# EAGLE library part XC3S1600EFG484 (library xilinx_spartan3_virtex4_and_5)
Xilinx FPGA
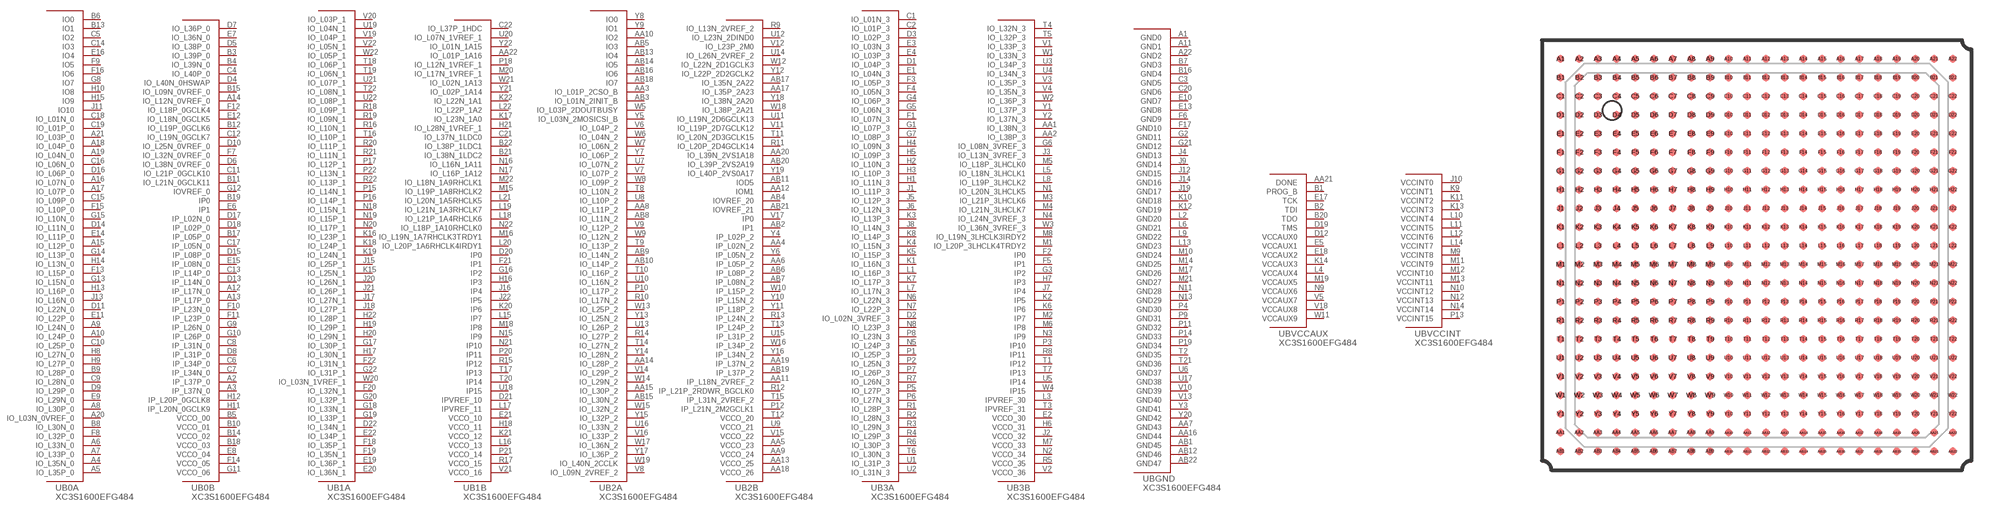
[diagram p60: symbol with the pads of FG484; footprint FG484]

Designator prefix U; gates B0A=XC3S1600EFG484_0A B0B=XC3S1600EFG484_0B B1A=XC3S1600EFG484_1A B1B=XC3S1600EFG484_1B B2A=XC3S1600EFG484_2A B2B=XC3S1600EFG484_2B B3A=XC3S1600EFG484_3A B3B=XC3S1600EFG484_3B BGND=XC3S1600EFG484_GND BVCCAUX=XC3S1600EFG484_VCCAUX BVCCINT=XC3S1600EFG484_VCCINT

## XC3S1600EFG484  [FG484]
A1  BGND:GND0  pas
A2  B0B:IP_L37P_0
A3  B0B:IP_L37N_0
A4  B0A:IO_L35N_0
A5  B0A:IO_L35P_0
A6  B0A:IO_L33N_0
A7  B0A:IO_L33P_0
A8  B0A:IO_L30P_0
A9  B0A:IO_L24N_0
A10  B0A:IO_L24P_0
A11  BGND:GND1  pas
A12  B0B:IP_L17N_0
A13  B0B:IP_L17P_0
A14  B0B:IO_L12N_0VREF_0
A15  B0A:IO_L12P_0
A16  B0A:IO_L07N_0
A17  B0A:IO_L07P_0
A18  B0A:IO_L04P_0
A19  B0A:IO_L04N_0
A20  B0A:IO_L03N_0VREF_0
A21  B0A:IO_L03P_0
A22  BGND:GND2  pas
AA1  B3B:IO_L38N_3
AA2  B3B:IO_L38P_3
AA3  B2A:IO_L01P_2CSO_B
AA4  B2B:IP_L02N_2
AA5  B2B:VCCO_23  pas
AA6  B2B:IP_L05P_2
AA7  BGND:GND43  pas
AA8  B2A:IO_L11P_2
AA9  B2B:VCCO_24  pas
AA10  B2A:IO2
AA11  B2B:IP_L18N_2VREF_2
AA12  B2B:IOM1
AA13  B2B:VCCO_25  pas
AA14  B2A:IO_L28P_2
AA15  B2A:IO_L30P_2
AA16  BGND:GND44  pas
AA17  B2B:IO_L35P_2A23
AA18  B2B:VCCO_26  pas
AA19  B2B:IP_L37N_2
AA20  B2B:IO_L39N_2VS1A18
AA21  BVCCAUX:DONE
AA22  B1B:IO_L01P_1A16
AB1  BGND:GND45  pas
AB2  B2B:IP1
AB3  B2A:IO_L01N_2INIT_B
AB4  B2B:IOVREF_20
AB5  B2A:IO3
AB6  B2B:IP_L08P_2
AB7  B2B:IP_L08N_2
AB8  B2A:IO_L11N_2
AB9  B2A:IO_L14N_2
AB10  B2A:IO_L14P_2
AB11  B2B:IOD5
AB12  BGND:GND46  pas
AB13  B2A:IO4
AB14  B2A:IO5
AB15  B2A:IO_L30N_2
AB16  B2A:IO6
AB17  B2B:IO_L35N_2A22
AB18  B2A:IO7
AB19  B2B:IP_L37P_2
AB20  B2B:IO_L39P_2VS2A19
AB21  B2B:IOVREF_21
AB22  BGND:GND47  pas
B1  BVCCAUX:PROG_B
B2  BVCCAUX:TDI
B3  B0B:IO_L39P_0
B4  B0B:IO_L39N_0
B5  B0B:VCCO_00  pas
B6  B0A:IO0
B7  BGND:GND3  pas
B8  B0A:IO_L30N_0
B9  B0A:IO_L28P_0
B10  B0B:VCCO_01  pas
B11  B0B:IO_L21N_0GCLK11
B12  B0B:IO_L19P_0GCLK6
B13  B0A:IO1
B14  B0B:VCCO_02  pas
B15  B0B:IO_L09N_0VREF_0
B16  BGND:GND4  pas
B17  B0B:IP_L05P_0
B18  B0B:VCCO_03  pas
B19  B0B:IP0
B20  BVCCAUX:TDO
B21  B1B:IO_L38N_1LDC2
B22  B1B:IO_L38P_1LDC1
C1  B3A:IO_L01N_3
C2  B3A:IO_L01P_3
C3  BGND:GND5  pas
C4  B0B:IO_L40P_0
C5  B0A:IO2
C6  B0B:IP_L34P_0
C7  B0B:IP_L34N_0
C8  B0B:IP_L31N_0
C9  B0A:IO_L28N_0
C10  B0A:IO_L25P_0
C11  B0B:IO_L21P_0GCLK10
C12  B0B:IO_L19N_0GCLK7
C13  B0B:IP_L14P_0
C14  B0A:IO3
C15  B0A:IO_L09P_0
C16  B0A:IO_L06N_0
C17  B0B:IP_L05N_0
C18  B0A:IO_L01N_0
C19  B0A:IO_L01P_0
C20  BGND:GND6  pas
C21  B1B:IO_L37N_1LDC0
C22  B1B:IO_L37P_1HDC
D1  B3A:IO_L04P_3
D2  B3A:IO_L02N_3VREF_3
D3  B3A:IO_L02P_3
D4  B0B:IO_L40N_0HSWAP
D5  B0B:IO_L38P_0
D6  B0B:IO_L38N_0VREF_0
D7  B0B:IO_L36P_0
D8  B0B:IP_L31P_0
D9  B0A:IO_L29P_0
D10  B0B:IO_L25N_0VREF_0
D11  B0A:IO_L22N_0
D12  BVCCAUX:VCCAUX0  pas
D13  B0B:IP_L14N_0
D14  B0A:IO_L11N_0
D15  B0B:IP_L08P_0
D16  B0A:IO_L06P_0
D17  B0B:IP_L02N_0
D18  B0B:IP_L02P_0
D19  BVCCAUX:TMS
D20  B1B:IP0
D21  B1B:IPVREF_10
D22  B1A:IO_L34N_1
E1  B3A:IO_L04N_3
E2  B3B:VCCO_30  pas
E3  B3A:IO_L03N_3
E4  B3A:IO_L03P_3
E5  BVCCAUX:VCCAUX1  pas
E6  B0B:IP1
E7  B0B:IO_L36N_0
E8  B0B:VCCO_04  pas
E9  B0A:IO_L29N_0
E10  BGND:GND7  pas
E11  B0A:IO_L22P_0
E12  B0B:IO_L18N_0GCLK5
E13  BGND:GND8  pas
E14  B0A:IO_L11P_0
E15  B0B:IP_L08N_0
E16  B0A:IO4
E17  BVCCAUX:TCK
E18  BVCCAUX:VCCAUX2  pas
E19  B1A:IO_L36P_1
E20  B1A:IO_L36N_1
E21  B1B:VCCO_10  pas
E22  B1A:IO_L34P_1
F1  B3A:IO_L07N_3
F2  B3B:IP0
F3  B3A:IO_L05P_3
F4  B3A:IO_L05N_3
F5  B3B:IP1
F6  BGND:GND9  pas
F7  B0B:IO_L32N_0VREF_0
F8  B0A:IO_L32P_0
F9  B0A:IO5
F10  B0B:IP_L23N_0
F11  B0B:IP_L23P_0
F12  B0B:IO_L18P_0GCLK4
F13  B0A:IO_L15P_0
F14  B0B:VCCO_05  pas
F15  B0A:IO_L10P_0
F16  B0A:IO6
F17  BGND:GND10  pas
F18  B1A:IO_L35P_1
F19  B1A:IO_L35N_1
F20  B1A:IO_L32N_1
F21  B1B:IP1
F22  B1A:IO_L31N_1
G1  B3A:IO_L07P_3
G2  BGND:GND11  pas
G3  B3B:IP2
G4  B3A:IO_L06P_3
G5  B3A:IO_L06N_3
G6  B3B:IO_L08N_3VREF_3
G7  B3A:IO_L08P_3
G8  B0A:IO7
G9  B0B:IP_L26N_0
G10  B0B:IP_L26P_0
G11  B0B:VCCO_06  pas
G12  B0B:IOVREF_0
G13  B0A:IO_L15N_0
G14  B0A:IO_L13P_0
G15  B0A:IO_L10N_0
G16  B1B:IP2
G17  B1A:IO_L30P_1
G18  B1A:IO_L33N_1
G19  B1A:IO_L33P_1
G20  B1A:IO_L32P_1
G21  BGND:GND12  pas
G22  B1A:IO_L31P_1
H1  B3A:IO_L11N_3
H2  B3A:IO_L10N_3
H3  B3A:IO_L10P_3
H4  B3A:IO_L09N_3
H5  B3A:IO_L09P_3
H6  B3B:VCCO_31  pas
H7  B3B:IP3
H8  B0A:IO_L27N_0
H9  B0A:IO_L27P_0
H10  B0A:IO8
H11  B0B:IP_L20N_0GCLK9
H12  B0B:IP_L20P_0GCLK8
H13  B0A:IO_L16P_0
H14  B0A:IO_L13N_0
H15  B0A:IO9
H16  B1B:IP3
H17  B1A:IO_L30N_1
H18  B1B:VCCO_11  pas
H19  B1A:IO_L29P_1
H20  B1A:IO_L29N_1
H21  B1B:IO_L28N_1VREF_1
H22  B1A:IO_L28P_1
J1  B3A:IO_L11P_3
J2  B3B:VCCO_32  pas
J3  B3B:IO_L13N_3VREF_3
J4  BGND:GND13  pas
J5  B3A:IO_L12P_3
J6  B3A:IO_L12N_3
J7  B3B:IP4
J8  B3A:IO_L14N_3
J9  BGND:GND14  pas
J10  BVCCINT:VCCINT0  pas
J11  B0A:IO10
J12  BGND:GND15  pas
J13  B0A:IO_L16N_0
J14  BGND:GND16  pas
J15  B1A:IO_L25P_1
J16  B1B:IP4
J17  B1A:IO_L27N_1
J18  B1A:IO_L27P_1
J19  BGND:GND17  pas
J20  B1A:IO_L26N_1
J21  B1A:IO_L26P_1
J22  B1B:IP5
K1  B3A:IO_L16N_3
K2  B3B:IP5
K3  B3A:IO_L13P_3
K4  B3A:IO_L15N_3
K5  B3A:IO_L15P_3
K6  B3B:IP6
K7  B3A:IO_L17P_3
K8  B3A:IO_L14P_3
K9  BVCCINT:VCCINT1  pas
K10  BGND:GND18  pas
K11  BVCCINT:VCCINT2  pas
K12  BGND:GND19  pas
K13  BVCCINT:VCCINT3  pas
K14  BVCCAUX:VCCAUX3  pas
K15  B1A:IO_L25N_1
K16  B1A:IO_L23P_1
K17  B1B:IO_L23N_1A0
K18  B1A:IO_L24P_1
K19  B1A:IO_L24N_1
K20  B1B:IP6
K21  B1B:VCCO_12  pas
K22  B1B:IO_L22N_1A1
L1  B3A:IO_L16P_3
L2  BGND:GND20  pas
L3  B3B:IPVREF_30
L4  BVCCAUX:VCCAUX4  pas
L5  B3B:IO_L18N_3LHCLK1
L6  BGND:GND21  pas
L7  B3A:IO_L17N_3
L8  B3B:IO_L19P_3LHCLK2
L9  BGND:GND22  pas
L10  BVCCINT:VCCINT4  pas
L11  BVCCINT:VCCINT5  pas
L12  BVCCINT:VCCINT6  pas
L13  BGND:GND23  pas
L14  BVCCINT:VCCINT7  pas
L15  B1B:IP7
L16  B1B:VCCO_13  pas
L17  B1B:IPVREF_11
L18  B1B:IO_L21P_1A4RHCLK6
L19  B1B:IO_L21N_1A3RHCLK7
L20  B1B:IO_L20P_1A6RHCLK4IRDY1
L21  B1B:IO_L20N_1A5RHCLK5
L22  B1B:IO_L22P_1A2
M1  B3B:IO_L20P_3LHCLK4TRDY2
M2  B3B:IP7
M3  B3B:IO_L21P_3LHCLK6
M4  B3B:IO_L21N_3LHCLK7
M5  B3B:IO_L18P_3LHCLK0
M6  B3B:IP8
M7  B3B:VCCO_33  pas
M8  B3B:IO_L19N_3LHCLK3IRDY2
M9  BVCCINT:VCCINT8  pas
M10  BGND:GND24  pas
M11  BVCCINT:VCCINT9  pas
M12  BVCCINT:VCCINT10  pas
M13  BVCCINT:VCCINT11  pas
M14  BGND:GND25  pas
M15  B1B:IO_L19P_1A8RHCLK2
M16  B1B:IO_L19N_1A7RHCLK3TRDY1
M17  BGND:GND26  pas
M18  B1B:IP8
M19  BVCCAUX:VCCAUX5  pas
M20  B1B:IO_L17N_1VREF_1
M21  BGND:GND27  pas
M22  B1B:IO_L18N_1A9RHCLK1
N1  B3B:IO_L20N_3LHCLK5
N2  B3B:VCCO_34  pas
N3  B3B:IP9
N4  B3B:IO_L24N_3VREF_3
N5  B3A:IO_L24P_3
N6  B3A:IO_L22N_3
N7  B3A:IO_L22P_3
N8  B3A:IO_L23P_3
N9  BVCCAUX:VCCAUX6  pas
N10  BVCCINT:VCCINT12  pas
N11  BGND:GND28  pas
N12  BVCCINT:VCCINT13  pas
N13  BGND:GND29  pas
N14  BVCCINT:VCCINT14  pas
N15  B1B:IP9
N16  B1B:IO_L16N_1A11
N17  B1B:IO_L16P_1A12
N18  B1A:IO_L15N_1
N19  B1A:IO_L15P_1
N20  B1A:IO_L17P_1
N21  B1B:IP10
N22  B1B:IO_L18P_1A10RHCLK0
P1  B3A:IO_L25P_3
P2  B3A:IO_L25N_3
P3  B3B:IP10
P4  BGND:GND30  pas
P5  B3A:IO_L27P_3
P6  B3A:IO_L27N_3
P7  B3A:IO_L26P_3
P8  B3A:IO_L23N_3
P9  BGND:GND31  pas
P10  B2A:IO_L17P_2
P11  BGND:GND32  pas
P12  B2B:IP_L21N_2M2GCLK1
P13  BVCCINT:VCCINT15  pas
P14  BGND:GND33  pas
P15  B1A:IO_L14N_1
P16  B1A:IO_L14P_1
P17  B1A:IO_L12P_1
P18  B1B:IO_L12N_1VREF_1
P19  BGND:GND34  pas
P20  B1B:IP11
P21  B1B:VCCO_14  pas
P22  B1A:IO_L13N_1
R1  B3A:IO_L28P_3
R2  B3A:IO_L28N_3
R3  B3A:IO_L29N_3
R4  B3A:IO_L29P_3
R5  B3B:VCCO_35  pas
R6  B3A:IO_L30P_3
R7  B3A:IO_L26N_3
R8  B3B:IP11
R9  B2B:IO_L13N_2VREF_2
R10  B2A:IO_L17N_2
R11  B2B:IO_L20P_2D4GCLK14
R12  B2B:IP_L21P_2RDWR_BGCLK0
R13  B2B:IP_L24N_2
R14  B2A:IO_L27P_2
R15  B1B:IP12
R16  B1A:IO_L10N_1
R17  B1B:VCCO_15  pas
R18  B1A:IO_L09P_1
R19  B1A:IO_L09N_1
R20  B1A:IO_L11P_1
R21  B1A:IO_L11N_1
R22  B1A:IO_L13P_1
T1  B3B:IP12
T2  BGND:GND35  pas
T3  B3B:IPVREF_31
T4  B3B:IO_L32N_3
T5  B3B:IO_L32P_3
T6  B3A:IO_L30N_3
T7  B3B:IP13
T8  B2A:IO_L10N_2
T9  B2A:IO_L13P_2
T10  B2A:IO_L16P_2
T11  B2B:IO_L20N_2D3GCLK15
T12  B2B:VCCO_20  pas
T13  B2B:IP_L24P_2
T14  B2A:IO_L27N_2
T15  B2B:IP_L31N_2VREF_2
T16  B1A:IO_L10P_1
T17  B1B:IP13
T18  B1A:IO_L06P_1
T19  B1A:IO_L06N_1
T20  B1B:IP14
T21  BGND:GND36  pas
T22  B1A:IO_L08N_1
U1  B3A:IO_L31P_3
U2  B3A:IO_L31N_3
U3  B3B:IO_L34P_3
U4  B3B:IO_L34N_3
U5  B3B:IP14
U6  BGND:GND37  pas
U7  B2A:IO_L07N_2
U8  B2A:IO_L10P_2
U9  B2B:VCCO_21  pas
U10  B2A:IO_L16N_2
U11  B2B:IO_L19N_2D6GCLK13
U12  B2B:IO_L23N_2DIND0
U13  B2A:IO_L26P_2
U14  B2B:IO_L26N_2VREF_2
U15  B2B:IP_L31P_2
U16  B2A:IO_L33N_2
U17  BGND:GND38  pas
U18  B1B:IP15
U19  B1A:IO_L04N_1
U20  B1B:IO_L07N_1VREF_1
U21  B1A:IO_L07P_1
U22  B1A:IO_L08P_1
V1  B3B:IO_L33P_3
V2  B3B:VCCO_36  pas
V3  B3B:IO_L35P_3
V4  B3B:IO_L35N_3
V5  BVCCAUX:VCCAUX7  pas
V6  B2A:IO_L04P_2
V7  B2A:IO_L07P_2
V8  B2A:IO_L09N_2VREF_2
V9  B2A:IO_L12P_2
V10  BGND:GND39  pas
V11  B2B:IO_L19P_2D7GCLK12
V12  B2B:IO_L23P_2M0
V13  BGND:GND40  pas
V14  B2A:IO_L29P_2
V15  B2B:VCCO_22  pas
V16  B2A:IO_L33P_2
V17  B2B:IP0
V18  BVCCAUX:VCCAUX8  pas
V19  B1A:IO_L04P_1
V20  B1A:IO_L03P_1
V21  B1B:VCCO_16  pas
V22  B1A:IO_L05N_1
W1  B3B:IO_L33N_3
W2  B3B:IO_L36P_3
W3  B3B:IO_L36N_3VREF_3
W4  B3B:IP15
W5  B2A:IO_L03P_2DOUTBUSY
W6  B2A:IO_L04N_2
W7  B2A:IO_L06N_2
W8  B2A:IO_L09P_2
W9  B2A:IO_L12N_2
W10  B2B:IP_L15P_2
W11  BVCCAUX:VCCAUX9  pas
W12  B2B:IO_L22N_2D1GCLK3
W13  B2A:IO_L25P_2
W14  B2A:IO_L29N_2
W15  B2A:IO_L32N_2
W16  B2B:IP_L34P_2
W17  B2A:IO_L36N_2
W18  B2B:IO_L38P_2A21
W19  B2A:IO_L40N_2CCLK
W20  B1A:IO_L03N_1VREF_1
W21  B1B:IO_L02N_1A13
W22  B1A:IO_L05P_1
Y1  B3B:IO_L37P_3
Y2  B3B:IO_L37N_3
Y3  BGND:GND41  pas
Y4  B2B:IP_L02P_2
Y5  B2A:IO_L03N_2MOSICSI_B
Y6  B2B:IP_L05N_2
Y7  B2A:IO_L06P_2
Y8  B2A:IO0
Y9  B2A:IO1
Y10  B2B:IP_L15N_2
Y11  B2B:IP_L18P_2
Y12  B2B:IO_L22P_2D2GCLK2
Y13  B2A:IO_L25N_2
Y14  B2A:IO_L28N_2
Y15  B2A:IO_L32P_2
Y16  B2B:IP_L34N_2
Y17  B2A:IO_L36P_2
Y18  B2B:IO_L38N_2A20
Y19  B2B:IO_L40P_2VS0A17
Y20  BGND:GND42  pas
Y21  B1B:IO_L02P_1A14
Y22  B1B:IO_L01N_1A15

## Footprint FG484 (pad centres in mm)
smd 0.4 x 0.4: A1 -10.5,10.5; A2 -9.5,10.5; A3 -8.5,10.5; A4 -7.5,10.5; A5 -6.5,10.5; A6 -5.5,10.5; A7 -4.5,10.5; A8 -3.5,10.5; A9 -2.5,10.5; A10 -1.5,10.5; A11 -0.5,10.5; A12 0.5,10.5; A13 1.5,10.5; A14 2.5,10.5; A15 3.5,10.5; A16 4.5,10.5; A17 5.5,10.5; A18 6.5,10.5; A19 7.5,10.5; A20 8.5,10.5; A21 9.5,10.5; A22 10.5,10.5; AA1 -10.5,-9.5; AA2 -9.5,-9.5; AA3 -8.5,-9.5; AA4 -7.5,-9.5; AA5 -6.5,-9.5; AA6 -5.5,-9.5; AA7 -4.5,-9.5; AA8 -3.5,-9.5; AA9 -2.5,-9.5; AA10 -1.5,-9.5; AA11 -0.5,-9.5; AA12 0.5,-9.5; AA13 1.5,-9.5; AA14 2.5,-9.5; AA15 3.5,-9.5; AA16 4.5,-9.5; AA17 5.5,-9.5; AA18 6.5,-9.5; AA19 7.5,-9.5; AA20 8.5,-9.5; AA21 9.5,-9.5; AA22 10.5,-9.5; AB1 -10.5,-10.5; AB2 -9.5,-10.5; AB3 -8.5,-10.5; AB4 -7.5,-10.5; AB5 -6.5,-10.5; AB6 -5.5,-10.5; AB7 -4.5,-10.5; AB8 -3.5,-10.5; AB9 -2.5,-10.5; AB10 -1.5,-10.5; AB11 -0.5,-10.5; AB12 0.5,-10.5; AB13 1.5,-10.5; AB14 2.5,-10.5; AB15 3.5,-10.5; AB16 4.5,-10.5; AB17 5.5,-10.5; AB18 6.5,-10.5; AB19 7.5,-10.5; AB20 8.5,-10.5; AB21 9.5,-10.5; AB22 10.5,-10.5; B1 -10.5,9.5; B2 -9.5,9.5; B3 -8.5,9.5; B4 -7.5,9.5; B5 -6.5,9.5; B6 -5.5,9.5; B7 -4.5,9.5; B8 -3.5,9.5; B9 -2.5,9.5; B10 -1.5,9.5; B11 -0.5,9.5; B12 0.5,9.5; B13 1.5,9.5; B14 2.5,9.5; B15 3.5,9.5; B16 4.5,9.5; B17 5.5,9.5; B18 6.5,9.5; B19 7.5,9.5; B20 8.5,9.5; B21 9.5,9.5; B22 10.5,9.5; C1 -10.5,8.5; C2 -9.5,8.5; C3 -8.5,8.5; C4 -7.5,8.5; C5 -6.5,8.5; C6 -5.5,8.5; C7 -4.5,8.5; C8 -3.5,8.5; C9 -2.5,8.5; C10 -1.5,8.5; C11 -0.5,8.5; C12 0.5,8.5; C13 1.5,8.5; C14 2.5,8.5; C15 3.5,8.5; C16 4.5,8.5; C17 5.5,8.5; C18 6.5,8.5; C19 7.5,8.5; C20 8.5,8.5; C21 9.5,8.5; C22 10.5,8.5; D1 -10.5,7.5; D2 -9.5,7.5; D3 -8.5,7.5; D4 -7.5,7.5; D5 -6.5,7.5; D6 -5.5,7.5; D7 -4.5,7.5; D8 -3.5,7.5; D9 -2.5,7.5; D10 -1.5,7.5; D11 -0.5,7.5; D12 0.5,7.5; D13 1.5,7.5; D14 2.5,7.5; D15 3.5,7.5; D16 4.5,7.5; D17 5.5,7.5; D18 6.5,7.5; D19 7.5,7.5; D20 8.5,7.5; D21 9.5,7.5; D22 10.5,7.5; E1 -10.5,6.5; E2 -9.5,6.5; E3 -8.5,6.5; E4 -7.5,6.5; E5 -6.5,6.5; E6 -5.5,6.5; E7 -4.5,6.5; E8 -3.5,6.5; E9 -2.5,6.5; E10 -1.5,6.5; E11 -0.5,6.5; E12 0.5,6.5; E13 1.5,6.5; E14 2.5,6.5; E15 3.5,6.5; E16 4.5,6.5; E17 5.5,6.5; E18 6.5,6.5; E19 7.5,6.5; E20 8.5,6.5; E21 9.5,6.5; E22 10.5,6.5; F1 -10.5,5.5; F2 -9.5,5.5; F3 -8.5,5.5; F4 -7.5,5.5; F5 -6.5,5.5; F6 -5.5,5.5; F7 -4.5,5.5; F8 -3.5,5.5; F9 -2.5,5.5; F10 -1.5,5.5; F11 -0.5,5.5; F12 0.5,5.5; F13 1.5,5.5; F14 2.5,5.5; F15 3.5,5.5; F16 4.5,5.5; F17 5.5,5.5; F18 6.5,5.5; F19 7.5,5.5; F20 8.5,5.5; F21 9.5,5.5; F22 10.5,5.5; G1 -10.5,4.5; G2 -9.5,4.5; G3 -8.5,4.5; G4 -7.5,4.5; G5 -6.5,4.5; G6 -5.5,4.5; G7 -4.5,4.5; G8 -3.5,4.5; G9 -2.5,4.5; G10 -1.5,4.5; G11 -0.5,4.5; G12 0.5,4.5; G13 1.5,4.5; G14 2.5,4.5; G15 3.5,4.5; G16 4.5,4.5; G17 5.5,4.5; G18 6.5,4.5; G19 7.5,4.5; G20 8.5,4.5; G21 9.5,4.5; G22 10.5,4.5; H1 -10.5,3.5; H2 -9.5,3.5; H3 -8.5,3.5; H4 -7.5,3.5; H5 -6.5,3.5; H6 -5.5,3.5; H7 -4.5,3.5; H8 -3.5,3.5; H9 -2.5,3.5; H10 -1.5,3.5; H11 -0.5,3.5; H12 0.5,3.5; H13 1.5,3.5; H14 2.5,3.5; H15 3.5,3.5; H16 4.5,3.5; H17 5.5,3.5; H18 6.5,3.5; H19 7.5,3.5; H20 8.5,3.5; H21 9.5,3.5; H22 10.5,3.5; J1 -10.5,2.5; J2 -9.5,2.5; J3 -8.5,2.5; J4 -7.5,2.5; J5 -6.5,2.5; J6 -5.5,2.5; J7 -4.5,2.5; J8 -3.5,2.5; J9 -2.5,2.5; J10 -1.5,2.5; J11 -0.5,2.5; J12 0.5,2.5; J13 1.5,2.5; J14 2.5,2.5; J15 3.5,2.5; J16 4.5,2.5; J17 5.5,2.5; J18 6.5,2.5; J19 7.5,2.5; J20 8.5,2.5; J21 9.5,2.5; J22 10.5,2.5; K1 -10.5,1.5; K2 -9.5,1.5; K3 -8.5,1.5; K4 -7.5,1.5; K5 -6.5,1.5; K6 -5.5,1.5; K7 -4.5,1.5; K8 -3.5,1.5; K9 -2.5,1.5; K10 -1.5,1.5; K11 -0.5,1.5; K12 0.5,1.5; K13 1.5,1.5; K14 2.5,1.5; K15 3.5,1.5; K16 4.5,1.5; K17 5.5,1.5; K18 6.5,1.5; K19 7.5,1.5; K20 8.5,1.5; K21 9.5,1.5; K22 10.5,1.5; L1 -10.5,0.5; L2 -9.5,0.5; L3 -8.5,0.5; L4 -7.5,0.5; L5 -6.5,0.5; L6 -5.5,0.5; L7 -4.5,0.5; L8 -3.5,0.5; L9 -2.5,0.5; L10 -1.5,0.5; L11 -0.5,0.5; L12 0.5,0.5; L13 1.5,0.5; L14 2.5,0.5; L15 3.5,0.5; L16 4.5,0.5; L17 5.5,0.5; L18 6.5,0.5; L19 7.5,0.5; L20 8.5,0.5; L21 9.5,0.5; L22 10.5,0.5; M1 -10.5,-0.5; M2 -9.5,-0.5; M3 -8.5,-0.5; M4 -7.5,-0.5; M5 -6.5,-0.5; M6 -5.5,-0.5; M7 -4.5,-0.5; M8 -3.5,-0.5; M9 -2.5,-0.5; M10 -1.5,-0.5; M11 -0.5,-0.5; M12 0.5,-0.5; M13 1.5,-0.5; M14 2.5,-0.5; M15 3.5,-0.5; M16 4.5,-0.5; M17 5.5,-0.5; M18 6.5,-0.5; M19 7.5,-0.5; M20 8.5,-0.5; M21 9.5,-0.5; M22 10.5,-0.5; N1 -10.5,-1.5; N2 -9.5,-1.5; N3 -8.5,-1.5; N4 -7.5,-1.5; N5 -6.5,-1.5; N6 -5.5,-1.5; N7 -4.5,-1.5; N8 -3.5,-1.5; N9 -2.5,-1.5; N10 -1.5,-1.5; N11 -0.5,-1.5; N12 0.5,-1.5; N13 1.5,-1.5; N14 2.5,-1.5; N15 3.5,-1.5; N16 4.5,-1.5; N17 5.5,-1.5; N18 6.5,-1.5; N19 7.5,-1.5; N20 8.5,-1.5; N21 9.5,-1.5; N22 10.5,-1.5; P1 -10.5,-2.5; P2 -9.5,-2.5; P3 -8.5,-2.5; P4 -7.5,-2.5; P5 -6.5,-2.5; P6 -5.5,-2.5; P7 -4.5,-2.5; P8 -3.5,-2.5; P9 -2.5,-2.5; P10 -1.5,-2.5; P11 -0.5,-2.5; P12 0.5,-2.5; P13 1.5,-2.5; P14 2.5,-2.5; P15 3.5,-2.5; P16 4.5,-2.5; P17 5.5,-2.5; P18 6.5,-2.5; P19 7.5,-2.5; P20 8.5,-2.5; P21 9.5,-2.5; P22 10.5,-2.5; R1 -10.5,-3.5; R2 -9.5,-3.5; R3 -8.5,-3.5; R4 -7.5,-3.5; R5 -6.5,-3.5; R6 -5.5,-3.5; R7 -4.5,-3.5; R8 -3.5,-3.5; R9 -2.5,-3.5; R10 -1.5,-3.5; R11 -0.5,-3.5; R12 0.5,-3.5; R13 1.5,-3.5; R14 2.5,-3.5; R15 3.5,-3.5; R16 4.5,-3.5; R17 5.5,-3.5; R18 6.5,-3.5; R19 7.5,-3.5; R20 8.5,-3.5; R21 9.5,-3.5; R22 10.5,-3.5; T1 -10.5,-4.5; T2 -9.5,-4.5; T3 -8.5,-4.5; T4 -7.5,-4.5; T5 -6.5,-4.5; T6 -5.5,-4.5; T7 -4.5,-4.5; T8 -3.5,-4.5; T9 -2.5,-4.5; T10 -1.5,-4.5; T11 -0.5,-4.5; T12 0.5,-4.5; T13 1.5,-4.5; T14 2.5,-4.5; T15 3.5,-4.5; T16 4.5,-4.5; T17 5.5,-4.5; T18 6.5,-4.5; T19 7.5,-4.5; T20 8.5,-4.5; T21 9.5,-4.5; T22 10.5,-4.5; U1 -10.5,-5.5; U2 -9.5,-5.5; U3 -8.5,-5.5; U4 -7.5,-5.5; U5 -6.5,-5.5; U6 -5.5,-5.5; U7 -4.5,-5.5; U8 -3.5,-5.5; U9 -2.5,-5.5; U10 -1.5,-5.5; U11 -0.5,-5.5; U12 0.5,-5.5; U13 1.5,-5.5; U14 2.5,-5.5; U15 3.5,-5.5; U16 4.5,-5.5; U17 5.5,-5.5; U18 6.5,-5.5; U19 7.5,-5.5; U20 8.5,-5.5; U21 9.5,-5.5; U22 10.5,-5.5; V1 -10.5,-6.5; V2 -9.5,-6.5; V3 -8.5,-6.5; V4 -7.5,-6.5; V5 -6.5,-6.5; V6 -5.5,-6.5; V7 -4.5,-6.5; V8 -3.5,-6.5; V9 -2.5,-6.5; V10 -1.5,-6.5; V11 -0.5,-6.5; V12 0.5,-6.5; V13 1.5,-6.5; V14 2.5,-6.5; V15 3.5,-6.5; V16 4.5,-6.5; V17 5.5,-6.5; V18 6.5,-6.5; V19 7.5,-6.5; V20 8.5,-6.5; V21 9.5,-6.5; V22 10.5,-6.5; W1 -10.5,-7.5; W2 -9.5,-7.5; W3 -8.5,-7.5; W4 -7.5,-7.5; W5 -6.5,-7.5; W6 -5.5,-7.5; W7 -4.5,-7.5; W8 -3.5,-7.5; W9 -2.5,-7.5; W10 -1.5,-7.5; W11 -0.5,-7.5; W12 0.5,-7.5; W13 1.5,-7.5; W14 2.5,-7.5; W15 3.5,-7.5; W16 4.5,-7.5; W17 5.5,-7.5; W18 6.5,-7.5; W19 7.5,-7.5; W20 8.5,-7.5; W21 9.5,-7.5; W22 10.5,-7.5; Y1 -10.5,-8.5; Y2 -9.5,-8.5; Y3 -8.5,-8.5; Y4 -7.5,-8.5; Y5 -6.5,-8.5; Y6 -5.5,-8.5; Y7 -4.5,-8.5; Y8 -3.5,-8.5; Y9 -2.5,-8.5; Y10 -1.5,-8.5; Y11 -0.5,-8.5; Y12 0.5,-8.5; Y13 1.5,-8.5; Y14 2.5,-8.5; Y15 3.5,-8.5; Y16 4.5,-8.5; Y17 5.5,-8.5; Y18 6.5,-8.5; Y19 7.5,-8.5; Y20 8.5,-8.5; Y21 9.5,-8.5; Y22 10.5,-8.5